# EAGLE library part EPCQ16ASI8N (library EPCQ16ASI8N)
FPGA - Configuration Memory Source: Datasheet <https://www.altera.com/content/dam/altera-www/global/en_US/pdfs/literature/hb/cfg/cfg_cf52014.pdf>
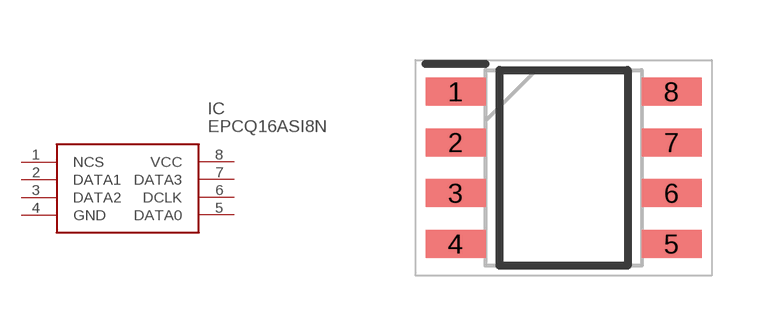
[diagram p0: symbol with the pads of SOIC127P600X175-8N; footprint SOIC127P600X175-8N]

Designator prefix IC

## EPCQ16ASI8N (Description: FPGA - Configuration Memory; Height: 1.75mm; Manufacturer_Name: Intel; Manufacturer_Part_Number: EPCQ16ASI8N; Mouser_Part_Number: 989-EPCQ16ASI8N; Mouser_Price-Stock: https://www.mouser.co.uk/ProductDetail/Intel-Altera/EPCQ16ASI8N?qs=EU6FO9ffTwfG9ViUTMZ%252BJw%3D%3D)  [SOIC127P600X175-8N]
1  NCS
2  DATA1
3  DATA2
4  GND
5  DATA0
6  DCLK
7  DATA3
8  VCC

## Footprint SOIC127P600X175-8N (pad centres in mm)
8-Pin Small Outline Integrated Circuit Package (SOIC) - Wire Bond _1
smd 1.5 x 0.7: 1 -2.7,1.905; 2 -2.7,0.635; 3 -2.7,-0.635; 4 -2.7,-1.905; 5 2.7,-1.905; 6 2.7,-0.635; 7 2.7,0.635; 8 2.7,1.905